# Altium schematic symbol library ZM433SX-M.SCHLIB: 1 symbol
Pins are listed as number, name and electrical type; pins without a type are passive.

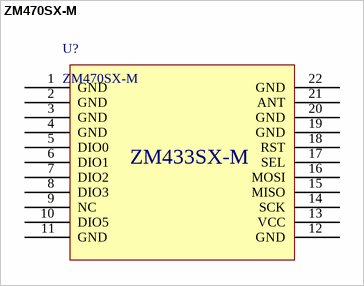
[diagram p0: symbol ZM470SX-M]

## ZM470SX-M
designator U?
footprint ZM470SX-M
pins: 1 GND, 2 GND, 3 GND, 4 GND, 5 DIO0, 6 DIO1, 7 DIO2, 8 DIO3, 9 NC, 10 DIO5, 11 GND, 12 GND, 13 VCC, 14 SCK, 15 MISO, 16 MOSI, 17 SEL, 18 RST, 19 GND, 20 GND, 21 ANT, 22 GND
text: ZM433SX-M